# Altium footprint library AD7606.PcbLib: 1 footprints
Each footprint in its own frame and in the unit in brackets; x right, y up, seen from the top. Pads: shape width x height; smd on the part's side, far side on the other; paste and mask are expansions set on the pad; w line width, h text height; cw(c..) or ccw(c..) is an arc to the next point about the centre after c.
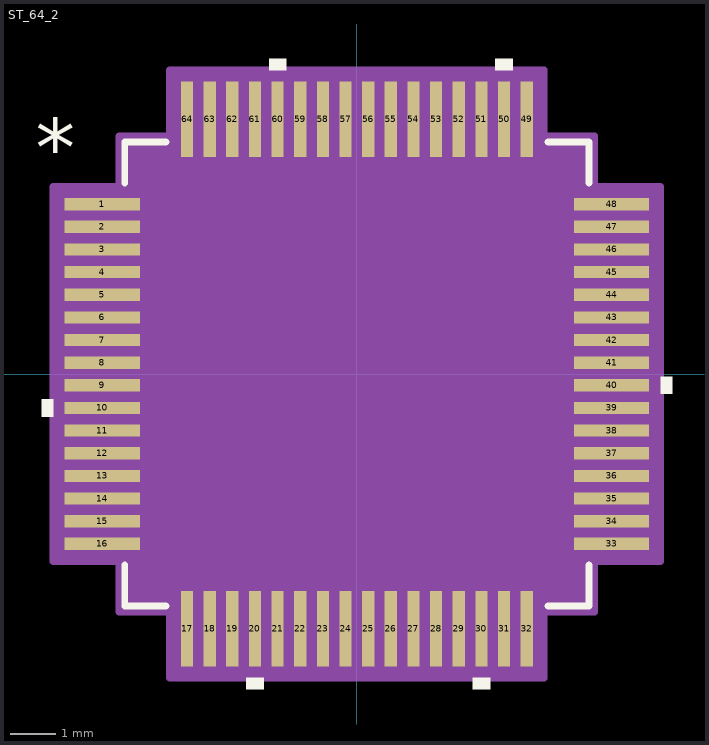
[diagram p0: the footprint, top view; thin cyan lines are the x and y axes]

## ST_64_2 [mm]
pads (64):
  rect 1.661x0.27 smd: 1(-5.625,3.75) 2(-5.625,3.25) 3(-5.625,2.75) 4(-5.625,2.25) 5(-5.625,1.75) 6(-5.625,1.25) 7(-5.625,0.75) 8(-5.625,0.25) 9(-5.625,-0.25) 10(-5.625,-0.75) 11(-5.625,-1.25) 12(-5.625,-1.75) 13(-5.625,-2.25) 14(-5.625,-2.75) 15(-5.625,-3.25) 16(-5.625,-3.75) 33(5.625,-3.75) 34(5.625,-3.25) 35(5.625,-2.75) 36(5.625,-2.25) 37(5.625,-1.75) 38(5.625,-1.25) 39(5.625,-0.75) 40(5.625,-0.25) 41(5.625,0.25) 42(5.625,0.75) 43(5.625,1.25) 44(5.625,1.75) 45(5.625,2.25) 46(5.625,2.75) 47(5.625,3.25) 48(5.625,3.75)
  rect 0.27x1.661 smd: 17(-3.75,-5.625) 18(-3.25,-5.625) 19(-2.75,-5.625) 20(-2.25,-5.625) 21(-1.75,-5.625) 22(-1.25,-5.625) 23(-0.75,-5.625) 24(-0.25,-5.625) 25(0.25,-5.625) 26(0.75,-5.625) 27(1.25,-5.625) 28(1.75,-5.625) 29(2.25,-5.625) 30(2.75,-5.625) 31(3.25,-5.625) 32(3.75,-5.625) 49(3.75,5.625) 50(3.25,5.625) 51(2.75,5.625) 52(2.25,5.625) 53(1.75,5.625) 54(1.25,5.625) 55(0.75,5.625) 56(0.25,5.625) 57(-0.25,5.625) 58(-0.75,5.625) 59(-1.25,5.625) 60(-1.75,5.625) 61(-2.25,5.625) 62(-2.75,5.625) 63(-3.25,5.625) 64(-3.75,5.625)
Top Overlay:
  region: -6.71,-0.56 -6.964,-0.56 -6.964,-0.941 -6.71,-0.941
  region: -2.06,-6.71 -2.441,-6.71 -2.441,-6.964 -2.06,-6.964
  region: 2.94,-6.71 2.559,-6.71 2.559,-6.964 2.94,-6.964
  region: 6.71,-0.059 6.964,-0.059 6.964,-0.44 6.71,-0.44
  region: 3.441,6.71 3.06,6.71 3.06,6.964 3.441,6.964
  region: -1.559,6.71 -1.94,6.71 -1.94,6.964 -1.559,6.964
  lines w0.152: -5.127,-4.218 -5.127,-5.127 -4.218,-5.127 ; -5.127,4.218 -5.127,5.127 -4.218,5.127 ; 4.218,-5.127 5.127,-5.127 5.127,-4.218 ; 4.218,5.127 5.127,5.127 5.127,4.218
  text "*" at -7.091,4.381 h1.27
Mechanical 13:
  drawing of 265 lines, arcs and shapes, not listed
  text "*" at -4.619,4 h1.27
Mechanical 15:
  region: -4.139,-5.254 -5.254,-5.254 -5.254,-4.139 -6.71,-4.139 -6.71,4.139 -5.254,4.139 -5.254,5.254 -4.139,5.254 -4.139,6.71 4.139,6.71 4.139,5.254 5.254,5.254 5.254,4.139 6.71,4.139 6.71,-4.139 5.254,-4.139 5.254,-5.254 4.139,-5.254 4.139,-6.71 -4.139,-6.71
  lines w0.152: -6.71,-4.139 -5.254,-4.139 -5.254,-5.254 -4.139,-5.254 -4.139,-6.71 4.139,-6.71 4.139,-5.254 5.254,-5.254 5.254,-4.139 6.71,-4.139 6.71,4.139 5.254,4.139 5.254,5.254 4.139,5.254 4.139,6.71 -4.139,6.71 -4.139,5.254 -5.254,5.254 -5.254,4.139 -6.71,4.139 -6.71,-4.139
3D body: height 0.25, standoff 0, extent 0,0 0.254,0.254